# EAGLE library part UX60-MB (library eagle-book)
USB Mini Connector
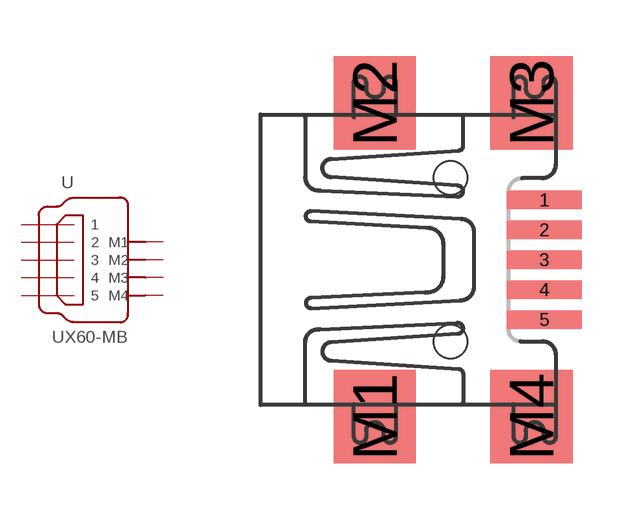
[diagram p2: symbol with the pads of UX60-MB-5ST; footprint UX60-MB-5ST]

Designator prefix U

## UX60-MB-5ST  [UX60-MB-5ST]
1  1  pwr
2  2  in
3  3  in
4  4  nc
5  5  pwr
M1  M1  pwr
M2  M2  pwr
M3  M3  pwr
M4  M4  pwr

## Footprint UX60-MB-5ST (pad centres in mm)
USB-Mini-B Connector
smd 2 x 0.5: 1 1.234,1.6; 2 1.234,0.8; 3 1.234,0; 4 1.234,-0.8; 5 1.234,-1.6
smd 2.2 x 2.5: M1 -3.3,-4.2; M2 -3.3,4.2; M3 0.889,4.2; M4 0.889,-4.2
hole 0.9 at -1.27,-2.197
hole 0.9 at -1.27,2.197